# Altium footprint library DRV8701_DualMotorDriver V1.1.PcbLib: 84 footprints (part 6 of 6)
Each footprint in its own frame and in the unit in brackets; x right, y up, seen from the top. Pads: shape width x height; smd on the part's side, far side on the other; paste and mask are expansions set on the pad; w line width, h text height; cw(c..) or ccw(c..) is an arc to the next point about the centre after c.
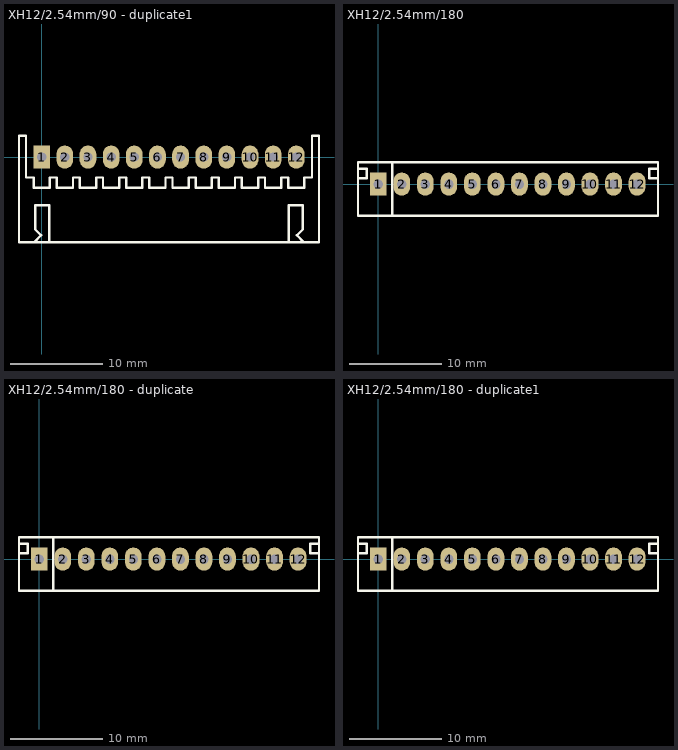
[diagram p5: the footprints below, top view; thin cyan lines are the x and y axes]

## XH12/2.54mm/90 - duplicate1 [mm]
pads (12):
  rect 1.8x2.5 hole 1: 1(0,0)
  oval 1.8x2.5 hole 1: 2(2.5,0) 3(5,0) 4(7.5,0) 5(10,0) 6(12.5,0) 7(15,0) 8(17.5,0) 9(20,0) 10(22.5,0) 11(25,0) 12(27.5,0)
Top Overlay:
  lines w0.254: -0.79,-9.172 -0.064,-8.445 -0.7,-7.809 -0.7,-5.2 0.8,-5.2 0.8,-9.2 ; 26.7,-9.2 26.7,-5.2 28.2,-5.2 28.2,-7.809 27.564,-8.445 28.29,-9.172 ; -2.45,-9.2 29.95,-9.2 29.95,2.3 29.2,2.3 29.2,-2.2 28.375,-2.2 28.375,-3.3 26.625,-3.3 26.625,-2.2 25.875,-2.2 25.875,-3.3 24.125,-3.3 24.125,-2.2 23.375,-2.2 23.375,-3.3 21.625,-3.3 21.625,-2.2 20.875,-2.2 20.875,-3.3 19.125,-3.3 19.125,-2.2 18.375,-2.2 18.375,-3.3 16.625,-3.3 16.625,-2.2 15.875,-2.2 15.875,-3.3 14.125,-3.3 14.125,-2.2 13.375,-2.2 13.375,-3.3 11.625,-3.3 11.625,-2.2 10.875,-2.2 10.875,-3.3 9.125,-3.3 9.125,-2.2 8.375,-2.2 8.375,-3.3 6.625,-3.3 6.625,-2.2 5.875,-2.2 5.875,-3.3 4.125,-3.3 4.125,-2.2 3.375,-2.2 3.375,-3.3 1.625,-3.3 1.625,-2.2 0.875,-2.2 0.875,-3.3 -0.875,-3.3 -0.875,-2.2 -1.7,-2.2 -1.7,2.3 -2.45,2.3 -2.45,-9.2
3D body "JST-S12B-XH-A.STEP": height 6.1, standoff -3.4, extent -2.45,-9.2 29.95,2.3

## XH12/2.54mm/180 [mm]
pads (12):
  rect 1.8x2.5 hole 1: 1(0,0)
  oval 1.8x2.5 hole 1: 2(2.54,0) 3(5.08,0) 4(7.62,0) 5(10.16,0) 6(12.7,0) 7(15.24,0) 8(17.78,0) 9(20.32,0) 10(22.86,0) 11(25.4,0) 12(27.94,0)
Top Overlay:
  lines w0.254: -2.196,0.65 -1.27,0.65 -1.27,1.65 -2.196,1.65 ; 1.504,-3.4 1.504,2.35 ; 30.204,0.65 29.278,0.65 29.278,1.65 30.204,1.65 ; -2.196,-3.4 -2.196,2.35 30.204,2.35 30.204,-3.4 -2.196,-3.4
3D body "JST-B12B-XH-A.STEP": height 7, standoff -3.4, extent -2.196,-3.4 30.204,2.35

## XH12/2.54mm/180 - duplicate [mm]
pads (12):
  rect 1.8x2.5 hole 1: 1(0,0)
  oval 1.8x2.5 hole 1: 2(2.54,0) 3(5.08,0) 4(7.62,0) 5(10.16,0) 6(12.7,0) 7(15.24,0) 8(17.78,0) 9(20.32,0) 10(22.86,0) 11(25.4,0) 12(27.94,0)
Top Overlay:
  lines w0.254: -2.196,0.65 -1.27,0.65 -1.27,1.65 -2.196,1.65 ; 1.504,-3.4 1.504,2.35 ; 30.204,0.65 29.278,0.65 29.278,1.65 30.204,1.65 ; -2.196,-3.4 30.204,-3.4 30.204,2.35 -2.196,2.35 -2.196,-3.4
3D body "JST-B12B-XH-A.STEP": height 7, standoff -3.4, extent -2.196,-3.4 30.204,2.35

## XH12/2.54mm/180 - duplicate1 [mm]
pads (12):
  rect 1.8x2.5 hole 1: 1(0,0)
  oval 1.8x2.5 hole 1: 2(2.54,0) 3(5.08,0) 4(7.62,0) 5(10.16,0) 6(12.7,0) 7(15.24,0) 8(17.78,0) 9(20.32,0) 10(22.86,0) 11(25.4,0) 12(27.94,0)
Top Overlay:
  lines w0.254: -2.196,0.65 -1.27,0.65 -1.27,1.65 -2.196,1.65 ; 1.504,-3.4 1.504,2.35 ; 30.204,0.65 29.278,0.65 29.278,1.65 30.204,1.65 ; -2.196,-3.4 30.204,-3.4 30.204,2.35 -2.196,2.35 -2.196,-3.4
3D body "JST-B12B-XH-A.STEP": height 7, standoff -3.4, extent -2.196,-3.4 30.204,2.35